# EAGLE library part LTC4421 (library LM555-Jessica-Ly)
LTC4421 Dual Supply Prioritizer Datasheet <https://www.mouser.com/datasheet/2/609/LTC4421-1716308.pdf>
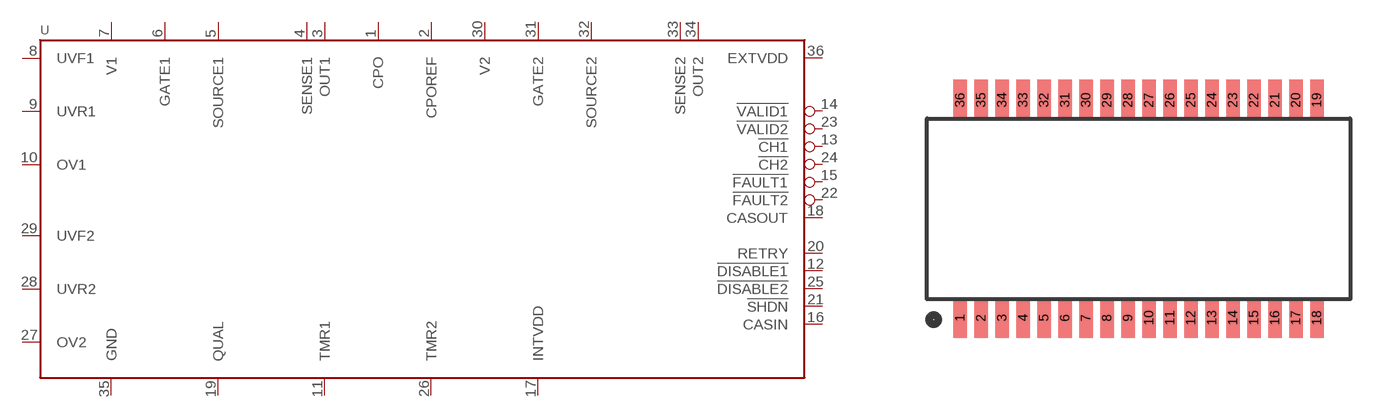
[diagram p22: symbol with the pads of SSOP-36; footprint SSOP-36]

Designator prefix U

## LTC4421 (DKPN: 161-LTC4421CG#PBF-ND; MANUFACTURER: Analog Devices Inc.; MOPN: 584-LTC4421CG#PBF; MPN: LTC4421CG#PBF)  [SSOP-36]
1  CPO  in
2  CPOREF  in
3  OUT1  in
4  SENSE1  in
5  SOURCE1  in
6  GATE1  out
7  V1  in
8  UVF1  in
9  UVR1  in
10  OV1  in
11  TMR1
12  !DISABLE1  in
13  !CH1  oc
14  !VALID1  oc
15  !FAULT1  oc
16  CASIN  in
17  INTVDD  pwr
18  CASOUT  out
19  QUAL
20  RETRY  in
21  !SHDN  in
22  !FAULT2  oc
23  !VALID2  oc
24  !CH2  oc
25  !DISABLE2  in
26  TMR2
27  OV2  in
28  UVR2  in
29  UVF2  in
30  V2  in
31  GATE2  out
32  SOURCE2  in
33  SENSE2  in
34  OUT2  in
35  GND  pwr
36  EXTVDD  pwr

## Footprint SSOP-36 (pad centres in mm)
SSOP-36 Datasheet <https://www.analog.com/media/en/package-pcb-resources/package/pkg_pdf/ltc-legacy-ssop/SSOP_36_05-08-1640.pdf>
smd 0.42 x 1.25: 1 -5.525,-3.375; 2 -4.875,-3.375; 3 -4.225,-3.375; 4 -3.575,-3.375; 5 -2.925,-3.375; 6 -2.275,-3.375; 7 -1.625,-3.375; 8 -0.975,-3.375; 9 -0.325,-3.375; 10 0.325,-3.375; 11 0.975,-3.375; 12 1.625,-3.375; 13 2.275,-3.375; 14 2.925,-3.375; 15 3.575,-3.375; 16 4.225,-3.375; 17 4.875,-3.375; 18 5.525,-3.375; 19 5.525,3.375; 20 4.875,3.375; 21 4.225,3.375; 22 3.575,3.375; 23 2.925,3.375; 24 2.275,3.375; 25 1.625,3.375; 26 0.975,3.375; 27 0.325,3.375; 28 -0.325,3.375; 29 -0.975,3.375; 30 -1.625,3.375; 31 -2.275,3.375; 32 -2.925,3.375; 33 -3.575,3.375; 34 -4.225,3.375; 35 -4.875,3.375; 36 -5.525,3.375